# Altium footprint library ELKO_d18_h40_p7_5 - horizontal.PcbLib: 1 footprints
Each footprint in its own frame and in the unit in brackets; x right, y up, seen from the top. Pads: shape width x height; smd on the part's side, far side on the other; paste and mask are expansions set on the pad; w line width, h text height; cw(c..) or ccw(c..) is an arc to the next point about the centre after c.
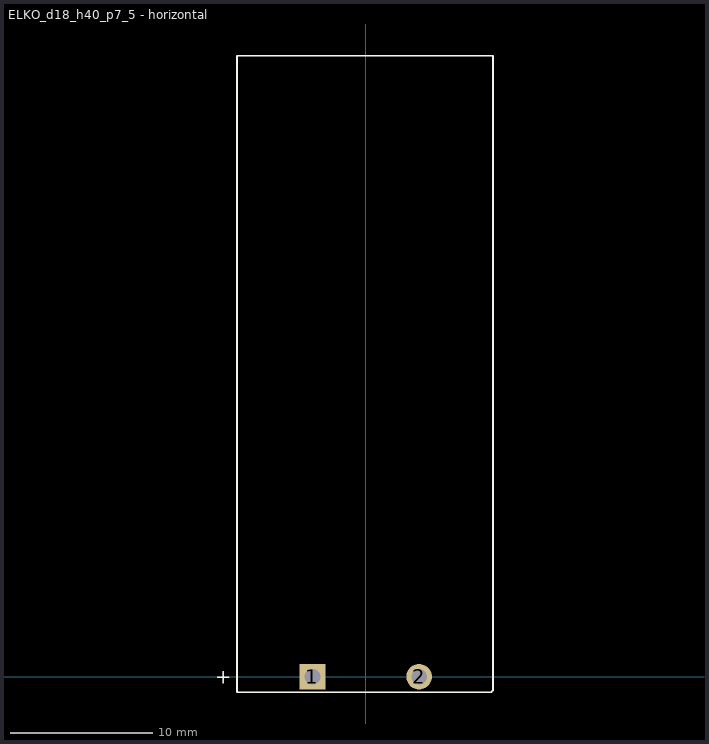
[diagram p0: the footprint, top view; thin cyan lines are the x and y axes]

## ELKO_d18_h40_p7_5 - horizontal [mm]
height 40
pads (2):
  rect 1.8x1.8 hole 1.1: 1(-3.75,0)
  round 1.8 hole 1.1: 2(3.75,0)
Top Overlay:
  lines w0.13: -9.068,-1.067 -9.042,-1.092 -3.683,-1.092 8.814,-1.092 8.941,-0.965 8.941,43.663 -9.068,43.663 -9.068,-1.067
  text "+" at -10.6,-0.5 h1
3D body: height 10, standoff -3, extent -4.191,-0.381 -3.394,0.417
3D body "User Library-Cap-EL(18x40-7_5)T.STEP": height 19, standoff 1, extent -9.077,-0.356 8.925,43.647
3D body: height 10, standoff -3, extent 3.309,-0.381 4.106,0.417